# Altium footprint library PCB - MCU - UHF-Radio-SAT2RF1-1B.PcbLib: 4 footprints
Each footprint in its own frame and in the unit in brackets; x right, y up, seen from the top. Pads: shape width x height; smd on the part's side, far side on the other; paste and mask are expansions set on the pad; w line width, h text height; cw(c..) or ccw(c..) is an arc to the next point about the centre after c.
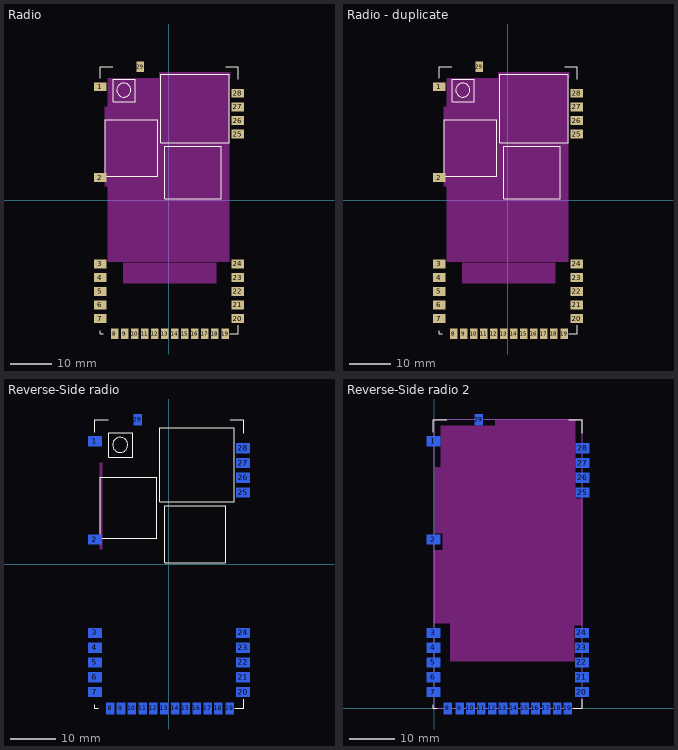
[diagram p0: the footprints below, top view; thin cyan lines are the x and y axes]

## Radio [mm]
pads (29):
  rect 3x2.15 smd: 1(-16.45,27.205) 2(-16.45,5.4) 3(-16.45,-15.275) 4(-16.45,-18.55) 5(-16.45,-21.825) 6(-16.45,-25.1) 7(-16.45,-28.375) 20(16.45,-28.375) 21(16.45,-25.1) 22(16.45,-21.825) 23(16.45,-18.55) 24(16.45,-15.275) 25(16.45,15.835) 26(16.45,19.105) 27(16.45,22.375) 28(16.45,25.645)
  rect 1.8x2.5 smd: 8(-13.05,-32) 9(-10.65,-32) 10(-8.25,-32) 11(-5.85,-32) 12(-3.45,-32) 13(-1.05,-32) 14(1.35,-32) 15(3.75,-32) 16(6.15,-32) 17(8.55,-32) 18(10.95,-32) 19(13.45,-32) 29(-6.9,32)
Top Overlay:
  circle w0.254: c-10.825,26.4 r1.68
  lines w0.254: -16.45,-31.25 -16.45,-32 -15.7,-32 ; -16.45,29.25 -16.45,32 -13.45,32 ; -8.075,23.7 -8.075,29.05 -13.35,29.05 -13.35,23.65 -8.075,23.65 -8.05,23.675 ; 13.55,32 16.55,32 16.55,29 ; 14.425,30.2 -1.975,30.2 -2,30.175 -2,13.8 -2.025,13.775 14.425,13.775 14.45,13.8 14.45,30.225 ; 14.55,-32 16.55,-32 16.55,-30 ; -15.25,5.775 -15.225,5.75 -2.675,5.75 -2.675,19.25 -15.25,19.25 -15.25,5.775 ; -0.975,0.35 -0.95,0.325 12.5,0.325 12.55,0.375 12.55,12.95 -0.95,12.95 -0.975,12.925 -0.975,0.35
Keep-Out Layer:
  region: 11.375,-19.95 11.375,-14.875 -11.075,-14.875 -11.075,-19.95
  rectangle: -15.4,3.25 -14.7,22.5
  rectangle: -14.7,-14.775 14.525,29.275
  region: 14.775,29.325 14.775,30.775 -2.425,30.775 -2.425,29.325
3D body: height 3, standoff 0, extent -12.61,24.56 -9.01,28.16
3D body: height 1, standoff 0, extent -0.975,0.325 12.525,12.925
3D body: height 1, standoff 0, extent -2,13.75 14.45,30.2
3D body: height 1, standoff 0, extent -15.25,5.75 -2.65,19.25

## Radio - duplicate [mm]
pads (29):
  rect 3x2.15 smd: 1(-16.45,27.205) 2(-16.45,5.4) 3(-16.45,-15.275) 4(-16.45,-18.55) 5(-16.45,-21.825) 6(-16.45,-25.1) 7(-16.45,-28.375) 20(16.45,-28.375) 21(16.45,-25.1) 22(16.45,-21.825) 23(16.45,-18.55) 24(16.45,-15.275) 25(16.45,15.835) 26(16.45,19.105) 27(16.45,22.375) 28(16.45,25.645)
  rect 1.8x2.5 smd: 8(-13.05,-32) 9(-10.65,-32) 10(-8.25,-32) 11(-5.85,-32) 12(-3.45,-32) 13(-1.05,-32) 14(1.35,-32) 15(3.75,-32) 16(6.15,-32) 17(8.55,-32) 18(10.95,-32) 19(13.45,-32) 29(-6.9,32)
Top Overlay:
  circle w0.254: c-10.825,26.4 r1.68
  lines w0.254: -16.45,-31.25 -16.45,-32 -15.7,-32 ; -16.45,29.25 -16.45,32 -13.45,32 ; -8.075,23.7 -8.075,29.05 -13.35,29.05 -13.35,23.65 -8.075,23.65 -8.05,23.675 ; 13.55,32 16.55,32 16.55,29 ; 14.425,30.2 -1.975,30.2 -2,30.175 -2,13.8 -2.025,13.775 14.425,13.775 14.45,13.8 14.45,30.225 ; 14.55,-32 16.55,-32 16.55,-30 ; -15.25,5.775 -15.25,19.25 -2.675,19.25 -2.675,5.75 -15.225,5.75 -15.25,5.775 ; -0.975,0.35 -0.975,12.925 -0.95,12.95 12.55,12.95 12.55,0.375 12.5,0.325 -0.95,0.325 -0.975,0.35
Keep-Out Layer:
  region: 14.775,29.325 14.775,30.775 -2.425,30.775 -2.425,29.325
  rectangle: -14.7,-14.775 14.525,29.275
  rectangle: -15.4,3.25 -14.7,22.5
  region: 11.375,-19.95 11.375,-14.875 -11.075,-14.875 -11.075,-19.95
3D body: height 1, standoff 0, extent -15.25,5.75 -2.65,19.25
3D body: height 1, standoff 0, extent -2,13.75 14.45,30.2
3D body: height 1, standoff 0, extent -0.975,0.325 12.525,12.925
3D body: height 3, standoff 0, extent -12.61,24.56 -9.01,28.16

## Reverse-Side radio [mm]
pads (29):
  rect 3x2.15 smd far side: 1(-16.45,27.205) 2(-16.45,5.4) 3(-16.45,-15.275) 4(-16.45,-18.55) 5(-16.45,-21.825) 6(-16.45,-25.1) 7(-16.45,-28.375) 20(16.45,-28.375) 21(16.45,-25.1) 22(16.45,-21.825) 23(16.45,-18.55) 24(16.45,-15.275) 25(16.45,15.835) 26(16.45,19.105) 27(16.45,22.375) 28(16.45,25.645)
  rect 1.8x2.5 smd far side: 8(-13.05,-32) 9(-10.65,-32) 10(-8.25,-32) 11(-5.85,-32) 12(-3.45,-32) 13(-1.05,-32) 14(1.35,-32) 15(3.75,-32) 16(6.15,-32) 17(8.55,-32) 18(10.95,-32) 19(13.45,-32) 29(-6.9,32)
Top Overlay:
  circle w0.254: c-10.825,26.4 r1.68
  lines w0.254: -16.45,-31.25 -16.45,-32 -15.7,-32 ; -16.45,29.25 -16.45,32 -13.45,32 ; -8.075,23.7 -8.075,29.05 -13.35,29.05 -13.35,23.65 -8.075,23.65 -8.05,23.675 ; 13.55,32 16.55,32 16.55,29 ; 14.425,30.2 -1.975,30.2 -2,30.175 -2,13.8 -2.025,13.775 14.425,13.775 14.45,13.8 14.45,30.225 ; 14.55,-32 16.55,-32 16.55,-30 ; -15.25,5.775 -15.225,5.75 -2.675,5.75 -2.675,19.25 -15.25,19.25 -15.25,5.775 ; -0.975,0.35 -0.95,0.325 12.5,0.325 12.55,0.375 12.55,12.95 -0.95,12.95 -0.975,12.925 -0.975,0.35
Keep-Out Layer:
  rectangle: -15.4,3.25 -14.7,22.5
3D body "COMM SAT2RF1-1B v1.stp": height 5.51, standoff -3.11, extent -16.279,-32.004 44.473,32.096

## Reverse-Side radio 2 [mm]
pads (29):
  rect 3x2.15 smd far side: 1(-0.169,59.209) 2(-0.169,37.404) 3(-0.169,16.729) 4(-0.169,13.454) 5(-0.169,10.179) 6(-0.169,6.904) 7(-0.169,3.629) 20(32.731,3.629) 21(32.731,6.904) 22(32.731,10.179) 23(32.731,13.454) 24(32.731,16.729) 25(32.9,47.839) 26(32.9,51.109) 27(32.9,54.379) 28(32.9,57.649)
  rect 1.8x2.5 smd far side: 8(3.05,0.004) 9(5.65,0.004) 10(8.05,0.004) 11(10.45,0.004) 12(12.85,0.004) 13(15.25,0.004) 14(17.65,0.004) 15(20.05,0.004) 16(22.45,0.004) 17(24.85,0.004) 18(27.25,0.004) 19(29.65,0.004) 29(9.85,64.004)
Top Overlay:
  lines w0.254: -0.169,61.254 -0.169,64.004 2.831,64.004 ; -0.15,0.754 -0.15,-0.025 0.581,-0.025 ; 29.831,64.004 32.842,64.004 32.842,61.004 ; 30.831,0.004 32.831,0.004 32.831,2.004
Keep-Out Layer:
  board cut-out: 1.5,62.6 13.487,62.6 13.487,63.881 31.013,63.881 31.013,10.414 3.581,10.414 3.581,38.862 0.279,38.862 0.279,53.467 1.5,53.467
  board cut-out: 31.267,45.72 31.267,63.875 29.616,63.875 29.616,45.72
  board cut-out: 30.139,18.415 32.791,18.415 32.791,46.482 29.86,46.482
  board cut-out: 0.025,35.052 4.851,35.052 4.851,18.923 0.025,18.923
  board cut-out: 1.93,39.243 1.93,34.29 2.184,34.036 5.613,34.036 5.613,38.862 5.232,39.243
Mechanical 13:
  lines w0.254: -0.025,-0.025 32.868,-0.025 32.868,64.085 -0.025,64.085 -0.025,-0.025
3D body "COMM SAT2RF1-1B v1.stp": height 4.26, standoff -4.36, extent 0.003,0 60.754,64.1